# Altium footprint library dip.PcbLib: 3 footprints
Each footprint in its own frame and in the unit in brackets; x right, y up, seen from the top. Pads: shape width x height; smd on the part's side, far side on the other; paste and mask are expansions set on the pad; w line width, h text height; cw(c..) or ccw(c..) is an arc to the next point about the centre after c.
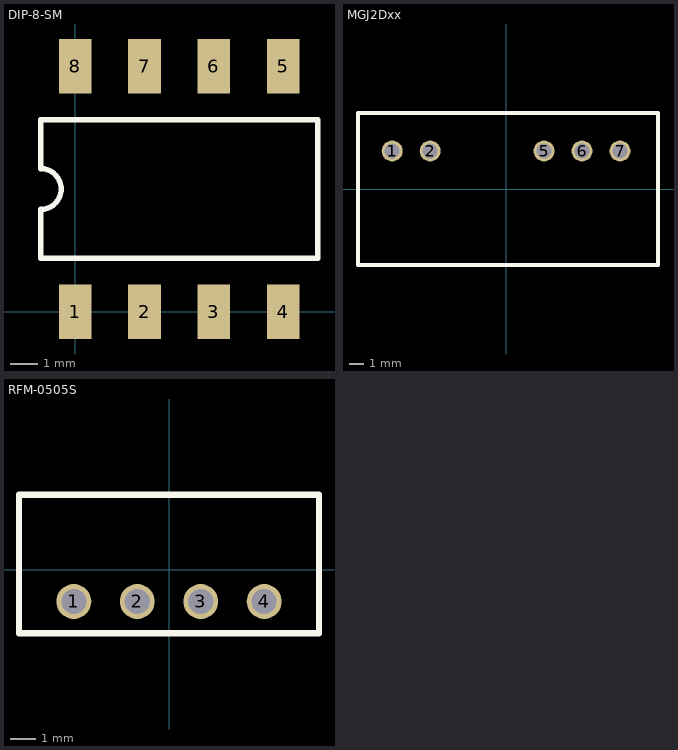
[diagram p0: the footprints below, top view; thin cyan lines are the x and y axes]

## DIP-8-SM [mm]
pads (8):
  rect 1.2x2 smd: 1(0,0) 2(2.54,0) 3(5.08,0) 4(7.62,0) 5(7.62,9) 6(5.08,9) 7(2.54,9) 8(0,9)
Top Overlay:
  lines w0.2: -1.27,1.96 -1.27,3.75 ccw(c-1.27,4.5) -1.27,5.25 -1.27,7.04 8.89,7.04 8.89,1.96 -1.27,1.96

## MGJ2Dxx [mm]
height 12.65
pads (5):
  round 1.4 hole 1: 1(-7.62,2.54) 2(-5.08,2.54) 5(2.54,2.54) 6(5.08,2.54) 7(7.62,2.54)
Top Overlay:
  lines w0.254: -9.906,-5.08 -9.906,5.08 10.16,5.08 10.16,-5.08 -9.906,-5.08
3D body "mps_dcdc_mgj2d_sc_a.step": height 12.6, standoff -4, extent -9.75,-4.826 9.75,4.994

## RFM-0505S [mm]
height 10
pads (4):
  round 1.4 hole 1: 1(-3.81,-1.27) 2(-1.27,-1.27) 3(1.27,-1.27) 4(3.81,-1.27)
Top Overlay:
  lines w0.254: -6,-2.54 -6,3 6,3 6,-2.54 -6,-2.54
3D body: height 10, standoff 0, extent -6.127,-2.667 6.127,3.127
3D body: height 10, standoff 0, extent -6.127,-2.667 6.127,3.127